# EAGLE library part BH-10SG (library connectors)
ic Source: Datasheet <http://akizukidenshi.com/download/ds/useconn/BH-XXSG.pdf>
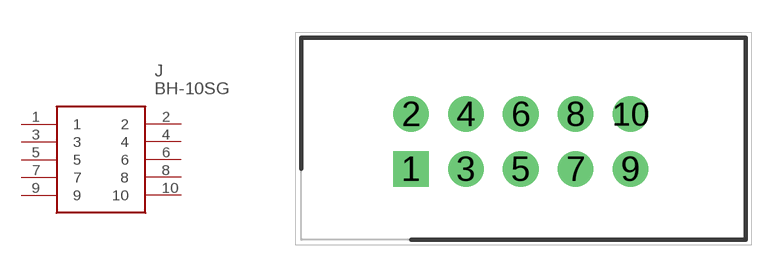
[diagram p0: symbol with the pads of SHDR10W64P254_2X5_2032X910X935; footprint SHDR10W64P254_2X5_2032X910X935]

Designator prefix J

## BH-10SG (DESCRIPTION: ic; HEIGHT: 9.35mm; MANUFACTURER_NAME: Useconn Electronics; MANUFACTURER_PART_NUMBER: BH-10SG)  [SHDR10W64P254_2X5_2032X910X935]
1  1
2  2
3  3
4  4
5  5
6  6
7  7
8  8
9  9
10  10

## Footprint SHDR10W64P254_2X5_2032X910X935 (pad centres in mm)
BH-10SG
drill 1.1 pad 1.65 square: 1 0,0
drill 1.1 pad 1.65: 2 0,2.54; 3 2.54,0; 4 2.54,2.54; 5 5.08,0; 6 5.08,2.54; 7 7.62,0; 8 7.62,2.54; 9 10.16,0; 10 10.16,2.54